# Altium footprint library SparkFun-LED.PCBLIB: 46 footprints (part 1 of 3)
Each footprint in its own frame and in the unit in brackets; x right, y up, seen from the top. Pads: shape width x height; smd on the part's side, far side on the other; paste and mask are expansions set on the pad; w line width, h text height; cw(c..) or ccw(c..) is an arc to the next point about the centre after c.
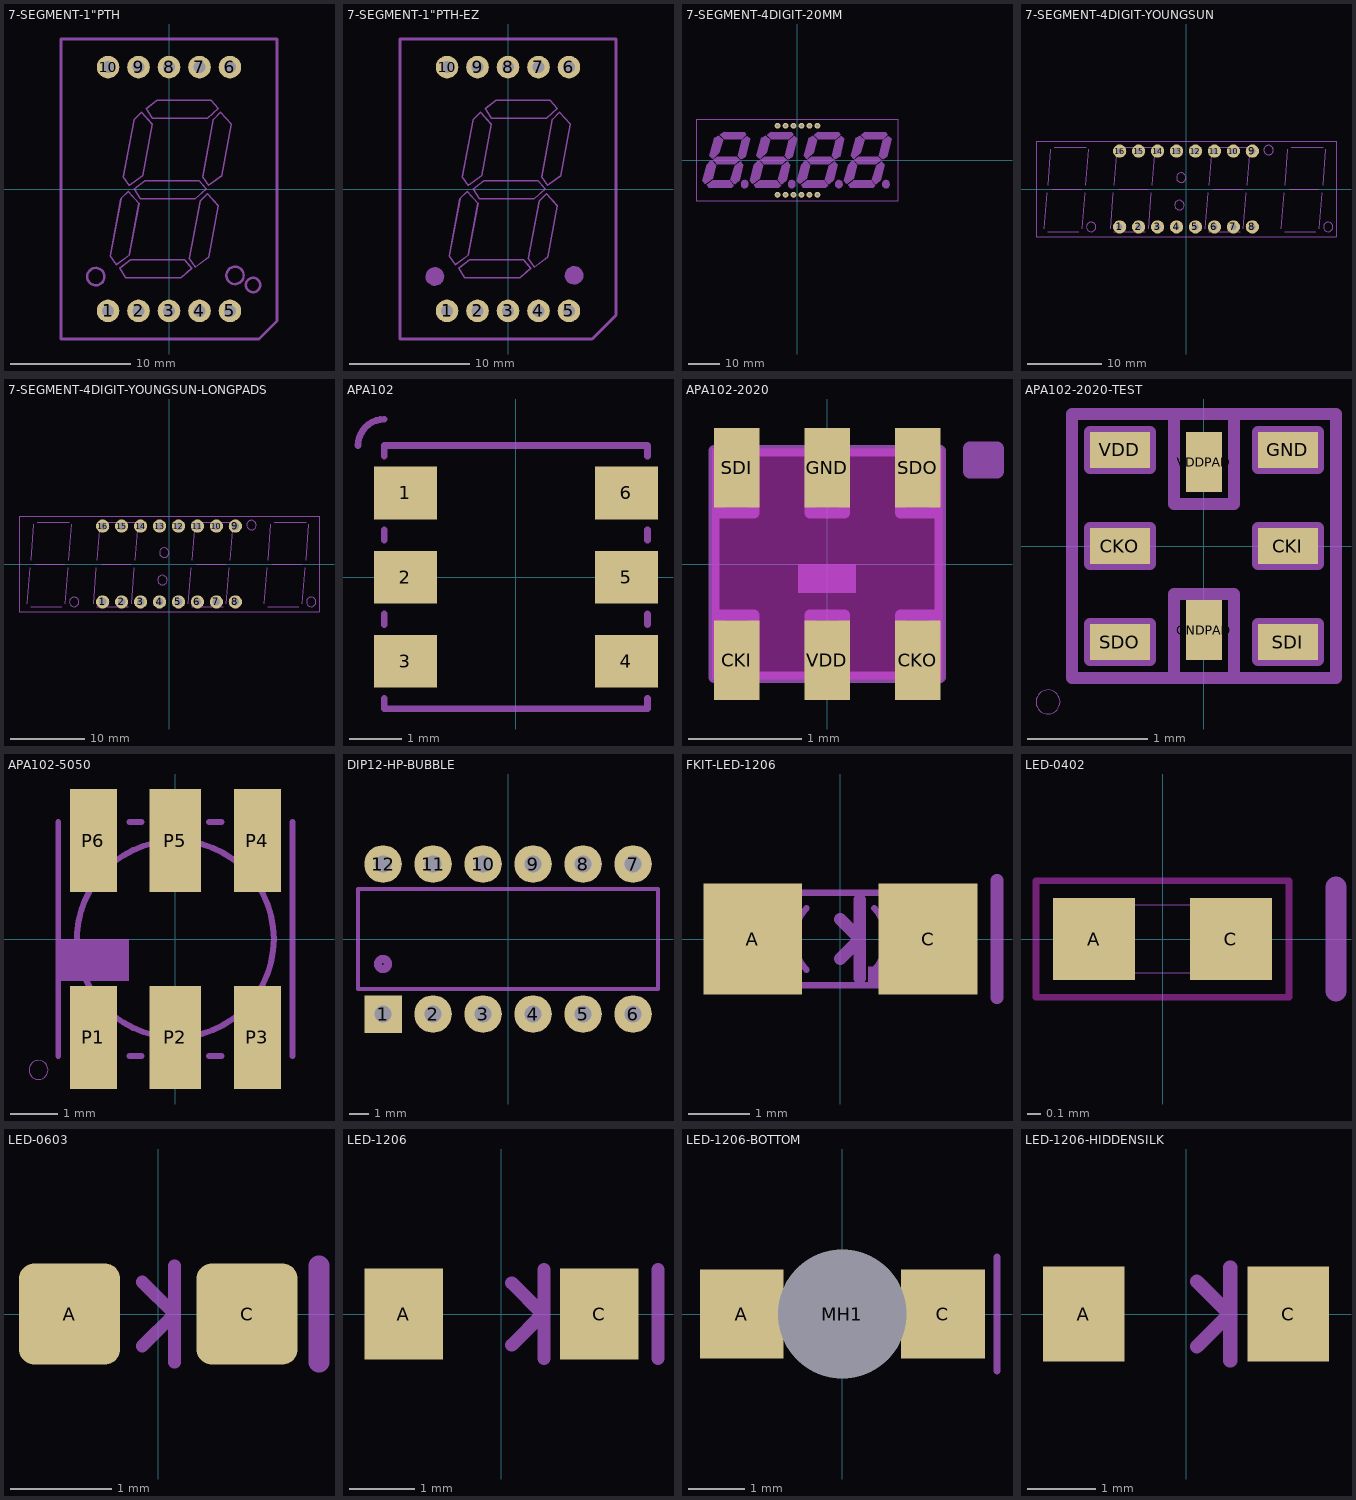
[diagram p0: the footprints below, top view; thin cyan lines are the x and y axes]

## 7-SEGMENT-1"PTH [mil]
pads (10):
  round 74 hole 39.37: 1(-200,-400) 2(-100,-400) 3(0,-400) 4(100,-400) 5(200,-400) 6(200,400) 7(100,400) 8(0,400) 9(-100,400) 10(-200,400)
tDocu:
  circle w8: c216.54,-283.46 r28.39
  circle w8: c-240.16,-287.4 r28.39
  lines w5: -192.91,-220.47 -173.23,-248.03 -129.92,-216.54 -98.43,-47.24 -133.86,-7.87 -157.48,-31.5 -192.91,-220.47 ; -161.42,-259.84 -125.98,-232.28 51.18,-232.28 74.8,-259.84 39.37,-291.34 -141.73,-291.34 -161.42,-259.84 ; -149.61,39.37 -129.92,11.81 -86.61,43.31 -55.12,212.6 -90.55,251.97 -114.17,228.35 -149.61,39.37 ; -114.17,0 -78.74,27.56 98.43,27.56 122.05,0 86.61,-31.5 -94.49,-31.5 -114.17,0 ; -74.8,263.78 -39.37,291.34 137.8,291.34 161.42,263.78 125.98,232.28 -55.12,232.28 -74.8,263.78 ; 66.93,-228.35 86.61,-255.91 129.92,-224.41 161.42,-55.12 125.98,-15.75 102.36,-39.37 66.93,-228.35 ; 110.24,39.37 129.92,11.81 173.23,43.31 204.72,212.6 169.29,251.97 145.67,228.35 110.24,39.37
tPlace:
  circle w8: c275.59,-314.96 r23.62
  lines w10: -354.33,-492.13 -354.33,492.13 354.33,492.13 354.33,-433.07 295.28,-492.13 -354.33,-492.13

## 7-SEGMENT-1"PTH-EZ [mil]
pads (10):
  round 74 hole 39.37: 1(-200,-400) 2(-100,-400) 3(0,-400) 4(100,-400) 5(200,-400) 6(200,400) 7(100,400) 8(0,400) 9(-100,400) 10(-200,400)
Top Solder:
  drawing of 10 lines, arcs and shapes, not listed
Bottom Solder:
  drawing of 10 lines, arcs and shapes, not listed
tPlace:
  region: -239,-257 -235.95,-257.2 -230.03,-258.77 -224.54,-261.48 -219.69,-265.2 -215.65,-269.79 -212.58,-275.09 -210.61,-280.88 -209.8,-286.95 -210,-290 -210.25,-292.91 -211.86,-298.51 -214.54,-303.69 -218.18,-308.25 -222.64,-312.01 -227.74,-314.83 -233.3,-316.6 -239.09,-317.25 -242,-317 -244.86,-316.9 -250.42,-315.59 -255.62,-313.23 -260.26,-309.89 -264.16,-305.71 -267.17,-300.85 -269.18,-295.5 -270.1,-289.86 -270,-287 -269.95,-284 -268.68,-278.12 -266.29,-272.61 -262.87,-267.67 -258.55,-263.49 -253.5,-260.23 -247.92,-258.03 -242,-256.95 -239,-257
  region: 218,-253 221.05,-253.2 226.97,-254.77 232.46,-257.48 237.31,-261.2 241.35,-265.79 244.42,-271.09 246.39,-276.88 247.2,-282.95 247,-286 246.75,-288.91 245.14,-294.51 242.46,-299.69 238.82,-304.25 234.36,-308.01 229.26,-310.83 223.7,-312.6 217.91,-313.25 215,-313 212.14,-312.9 206.58,-311.59 201.38,-309.23 196.74,-305.89 192.84,-301.71 189.83,-296.85 187.82,-291.5 186.9,-285.86 187,-283 187.05,-280 188.32,-274.12 190.71,-268.61 194.13,-263.67 198.45,-259.49 203.5,-256.23 209.08,-254.03 215,-252.95 218,-253
  lines w5: -192.91,-220.47 -173.23,-248.03 -129.92,-216.54 -98.43,-47.24 -133.86,-7.87 -157.48,-31.5 -192.91,-220.47 ; -161.42,-259.84 -125.98,-232.28 51.18,-232.28 74.8,-259.84 39.37,-291.34 -141.73,-291.34 -161.42,-259.84 ; -149.61,39.37 -129.92,11.81 -86.61,43.31 -55.12,212.6 -90.55,251.97 -114.17,228.35 -149.61,39.37 ; -114.17,0 -78.74,27.56 98.43,27.56 122.05,0 86.61,-31.5 -94.49,-31.5 -114.17,0 ; -74.8,263.78 -39.37,291.34 137.8,291.34 161.42,263.78 125.98,232.28 -55.12,232.28 -74.8,263.78 ; 66.93,-228.35 86.61,-255.91 129.92,-224.41 161.42,-55.12 125.98,-15.75 102.36,-39.37 66.93,-228.35 ; 110.24,39.37 129.92,11.81 173.23,43.31 204.72,212.6 169.29,251.97 145.67,228.35 110.24,39.37
  lines w10: -354.33,-492.13 -354.33,492.13 354.33,492.13 354.33,-414.07 276.28,-492.13 -354.33,-492.13

## 7-SEGMENT-4DIGIT-20MM [mil]
pads (12):
  round 74 hole 35.43: 1(-250,-433) 2(-150,-433) 3(-50,-433) 4(50,-433) 5(150,-433) 6(250,-433) 7(250,433) 8(150,433) 9(50,433) 10(-50,433) 11(-150,433) 12(-250,433)
tDocu:
  drawing of 172 lines, arcs and shapes, not listed
tPlace:
  drawing of 36 lines, arcs and shapes, not listed

## 7-SEGMENT-4DIGIT-YOUNGSUN [mil]
pads (16):
  round 70 hole 31.5: 1(-350,-200) 2(-250,-200) 3(-150,-200) 4(-50,-200) 5(50,-200) 6(150,-200) 7(250,-200) 8(350,-200) 9(350,200) 10(250,200) 11(150,200) 12(50,200) 13(-50,200) 14(-150,200) 15(-250,200) 16(-350,200)
tDocu:
  circle w5: c-500,-200 r25
  circle w5: c-150,-200 r25
  circle w5: c350,-200 r25
  circle w5: c750,-200 r25
  circle w5: c-25,60 r25
  circle w5: c-35,-85 r25
  circle w5: c435,205 r25
  lines w5: -750,-210 -735,-20 ; -730,-225 -565,-225 ; -730,20 -715,210 ; -705,0 -550,0 ; -695,220 -525,220 ; -550,-210 -535,-20 ; -530,20 -515,210 ; -400,-210 -385,-20 ; -380,-225 -215,-225 ; -380,20 -365,210 ; -355,0 -200,0 ; -345,220 -175,220 ; -200,-210 -185,-20 ; -180,20 -165,210 ; 100,-210 115,-20 ; 120,-225 285,-225 ; 120,20 135,210 ; 145,0 300,0 ; 155,220 325,220 ; 300,-210 315,-20 ; 320,20 335,210 ; 500,-210 515,-20 ; 520,-225 685,-225 ; 520,20 535,210 ; 545,0 700,0 ; 555,220 725,220 ; 700,-210 715,-20 ; 720,20 735,210 ; -790.94,-251.97 790.94,-251.97 790.94,251.97 -790.94,251.97 -790.94,-251.97
tPlace:
  circle w5: c435.63,205.32 r25
  lines w5: -790.94,-251.97 -790.94,251.97 790.94,251.97 790.94,-251.97 -790.94,-251.97

## 7-SEGMENT-4DIGIT-YOUNGSUN-LONGPADS [mil]
pads (16):
  round 70 hole 40: 1(-350,-200) 2(-250,-200) 3(-150,-200) 4(-50,-200) 5(50,-200) 6(150,-200) 7(250,-200) 8(350,-200) 9(350,200) 10(250,200) 11(150,200) 12(50,200) 13(-50,200) 14(-150,200) 15(-250,200) 16(-350,200)
tDocu:
  circle w5: c-500,-200 r25
  circle w5: c-150,-200 r25
  circle w5: c350,-200 r25
  circle w5: c750,-200 r25
  circle w5: c-25,60 r25
  circle w5: c-35,-85 r25
  circle w5: c435,205 r25
  lines w5: -750,-210 -735,-20 ; -730,-225 -565,-225 ; -730,20 -715,210 ; -705,0 -550,0 ; -695,220 -525,220 ; -550,-210 -535,-20 ; -530,20 -515,210 ; -400,-210 -385,-20 ; -380,-225 -215,-225 ; -380,20 -365,210 ; -355,0 -200,0 ; -345,220 -175,220 ; -200,-210 -185,-20 ; -180,20 -165,210 ; 100,-210 115,-20 ; 120,-225 285,-225 ; 120,20 135,210 ; 145,0 300,0 ; 155,220 325,220 ; 300,-210 315,-20 ; 320,20 335,210 ; 500,-210 515,-20 ; 520,-225 685,-225 ; 520,20 535,210 ; 545,0 700,0 ; 555,220 725,220 ; 700,-210 715,-20 ; 720,20 735,210 ; -790.94,-251.97 790.94,-251.97 790.94,251.97 -790.94,251.97 -790.94,-251.97
tPlace:
  lines w5: -790.94,-251.97 -790.94,251.97 790.94,251.97 790.94,-251.97 -790.94,-251.97

## APA102 [mm]
pads (6):
  rect 1.2x1 smd: 1(-2.1,1.6) 2(-2.1,0) 3(-2.1,-1.6) 4(2.1,-1.6) 5(2.1,0) 6(2.1,1.6)
tPlace:
  lines w0.127: -3,2.5 cw(c-2.5,2.5) -2.5,3 ; -2.5,-2.3 -2.5,-2.5 2.5,-2.5 2.5,-2.3 ; -2.5,-0.9 -2.5,-0.7 ; -2.5,0.7 -2.5,0.9 ; -2.5,2.3 -2.5,2.5 2.5,2.5 2.5,2.3 ; 2.5,-0.9 2.5,-0.7 ; 2.5,0.7 2.5,0.9

## APA102-2020 [mil]
pads (6):
  rect 15.75x27.56 smd paste+0: CKI(-31.5,-33.46) CKO(31.5,-33.46) GND(0,33.46) SDI(-31.5,33.46) SDO(31.5,33.46) VDD(0,-33.46)
Top keep-out:
  region: -40,-40 -40,40 40,40 40,-40
Top Paste:
  region: -37.4,21.65 -37.4,45.28 -25.59,45.28 -25.59,21.65
  region: -37.4,-45.28 -37.4,-21.65 -25.59,-21.65 -25.59,-45.28
  region: -5.91,-45.28 -5.91,-21.65 5.91,-21.65 5.91,-45.28
  region: 25.59,-45.28 25.59,-21.65 37.4,-21.65 37.4,-45.28
  region: 25.59,21.65 25.59,45.28 37.4,45.28 37.4,21.65
  region: -5.91,21.65 -5.91,45.28 5.91,45.28 5.91,21.65
tDocu:
  region: -10,-10 -10,0 10,0 10,-10
  lines w3.94: -39.37,-39.37 39.37,-39.37 39.37,39.37 -39.37,39.37 -39.37,-39.37 ; -37.4,-37.4 -25.59,-37.4 -25.59,-17.72 -37.4,-17.72 -37.4,-37.4 ; -37.4,17.72 -37.4,37.4 -25.59,37.4 -25.59,17.72 -37.4,17.72 ; -5.91,-37.4 5.91,-37.4 5.91,-17.72 -5.91,-17.72 -5.91,-37.4 ; -5.91,17.72 5.91,17.72 5.91,37.4 -5.91,37.4 -5.91,17.72 ; 25.59,-37.4 25.59,-17.72 37.4,-17.72 37.4,-37.4 25.59,-37.4 ; 25.59,17.72 37.4,17.72 37.4,37.4 25.59,37.4 25.59,17.72
tPlace:
  lines w5: 55.12,36.18 49.69,36.18 ; 49.69,36.18 49.69,40.12 59.06,40.12 59.06,32.24 49.69,32.24 49.69,36.18

## APA102-2020-TEST [mil]
pads (8):
  rect 19.69x11.81 smd: CKI(27.56,0) CKO(-27.56,0) GND(27.56,31.5) SDI(27.56,-31.5) SDO(-27.56,-31.5) VDD(-27.56,31.5)
  rect 11.81x19.69 smd: GNDPAD(0,-27.56) VDDPAD(0,27.56)
tDocu:
  lines w3.94: -37.4,-37.4 -37.4,-25.59 -17.72,-25.59 -17.72,-37.4 -37.4,-37.4 ; -37.4,-5.91 -37.4,5.91 -17.72,5.91 -17.72,-5.91 -37.4,-5.91 ; -37.4,25.59 -37.4,37.4 -17.72,37.4 -17.72,25.59 -37.4,25.59 ; -9.84,-43.31 -9.84,-15.75 9.84,-15.75 9.84,-43.31 -9.84,-43.31 ; -9.84,13.78 9.84,13.78 9.84,43.31 -9.84,43.31 -9.84,13.78 ; 17.72,-37.4 37.4,-37.4 37.4,-25.59 17.72,-25.59 17.72,-37.4 ; 17.72,-5.91 37.4,-5.91 37.4,5.91 17.72,5.91 17.72,-5.91 ; 17.72,25.59 37.4,25.59 37.4,37.4 17.72,37.4 17.72,25.59
tPlace:
  circle w0: c-51.18,-51.18 r3.94
  lines w3.94: -43.31,-43.31 -9.84,-43.31 9.84,-43.31 43.31,-43.31 43.31,43.31 9.84,43.31 -9.84,43.31 -43.31,43.31 -43.31,-43.31

## APA102-5050 [mm]
pads (6):
  rect 1x2.2 smd paste+0: P1(-1.75,-2.1) P3(1.75,-2.1) P4(1.75,2.1) P6(-1.75,2.1)
  rect 1.1x2.2 smd paste+0: P2(0,-2.1) P5(0,2.1)
Top Paste:
  region: -2.25,-3.2 -2.25,-1.125 -1.5,-1.125 -1.5,-3.2
  region: -0.375,-3.2 -0.375,-1.125 0.375,-1.125 0.375,-3.2
  region: 1.5,-3.2 1.5,-1.125 2.25,-1.125 2.25,-3.2
  region: 1.5,1.125 1.5,3.2 2.25,3.2 2.25,1.125
  region: -0.375,1.125 -0.375,3.2 0.375,3.2 0.375,1.125
  region: -2.25,1.125 -2.25,3.2 -1.5,3.2 -1.5,1.125
tDocu:
  circle w0.127: c0,0 r2.1
tPlace:
  circle w0: c-2.921,-2.794 r0.203
  region: -2.55,-0.89 -2.55,0 -1,0 -1,-0.89
  lines w0.127: -2.5,-2.5 -2.5,2.5 ; -0.98,-2.5 -0.72,-2.5 ; -0.98,2.5 -0.72,2.5 ; 0.72,-2.5 0.98,-2.5 ; 0.72,2.5 0.98,2.5 ; 2.5,-2.5 2.5,2.5

## DIP12-HP-BUBBLE [mil]
pads (12):
  rect 75x75 / inner round 69.29 / far side rect 75x75 hole 34: 1(-250,-150)
  round 75 hole 34: 2(-150,-150) 3(-50,-150) 4(50,-150) 5(150,-150) 6(250,-150) 7(250,150) 8(150,150) 9(50,150) 10(-50,150) 11(-150,150) 12(-250,150)
tPlace:
  circle w16: c-250,-50 r10
  lines w8: -300,-100 -300,100 300,100 300,-100 -300,-100

## FKIT-LED-1206 [mil]
pads (2):
  rect 62.99x70.98 smd: A(-55.98,0) C(55.98,0)
tDocu:
  region: 17.72,-27.56 17.72,-17.72 31.5,-17.72 31.5,-27.56
  region: 31.5,-27.56 31.5,19.69 35.43,19.69 35.43,-27.56
  region: 31.5,21.65 31.5,27.56 35.43,27.56 35.43,21.65
  region: -35.43,-27.56 -35.43,19.69 -31.5,19.69 -31.5,-27.56
  region: -35.43,21.65 -35.43,27.56 -31.5,27.56 -31.5,21.65
  lines w4: -21.65,-19.69 cw(c0.01,0) -21.65,19.69 ; 21.65,-19.69 ccw(c-0.01,0) 21.65,19.69 ; -61.02,-29.53 61.02,-29.53 61.02,29.53 -61.02,29.53 -61.02,-29.53
  lines w8: 0,-12.5 12.5,0 ; 0,12.5 12.5,0 ; 12.5,-25 12.5,0 ; 12.5,25 12.5,0
tPlace:
  lines w8: 100,-37.5 100,37.5

## LED-0402 [mil]
pads (2):
  rect 23.62x23.62 smd: A(-19.69,0) C(19.69,0)
Top keep-out:
  lines w1.97: -36.46,-16.78 -36.46,16.78 36.46,16.78 36.46,-16.78 -36.46,-16.78
tDocu:
  region: -19.69,-9.84 -19.69,9.84 -11.81,9.84 -11.81,-9.84
  region: 19.69,9.84 19.69,-9.84 11.81,-9.84 11.81,9.84
  lines w0.1: -19.69,-9.84 -19.69,9.84 19.69,9.84 19.69,-9.84 -19.69,-9.84
tPlace:
  lines w6: 50,-15 50,15

## LED-0603 [mm]
pads (2):
  rrect30% 1x1 smd: A(-0.877,0) C(0.877,0)
tDocu:
  lines w0.127: -0.159,-0.318 0.159,0 ; -0.159,0.318 0.159,0 ; 0.159,-0.476 0.159,0 ; 0.159,0.476 0.159,0
tPlace:
  lines w0.203: 1.587,-0.476 1.587,0.476

## LED-1206 [mil]
pads (2):
  rect 47.24x55.12 smd: A(-59.06,0) C(59.06,0)
tDocu:
  lines w8: 6.25,-18.75 25,0 6.25,18.75 ; 25.74,-26.87 25.74,26.87
tPlace:
  lines w8: 94.49,-26.87 94.49,26.87

## LED-1206-BOTTOM [mil]
pads (3):
  rect 59.06x62.99 smd: A(-70.87,0) C(70.87,0)
  round 90.55 hole 90.55 unplated: MH1(0,0)
tDocu:
  region: -29.53,-29.53 -29.53,29.53 29.53,29.53 29.53,-29.53
  region: 43.31,-19.69 43.31,19.69 62.99,19.69 62.99,9.84 61.45,9.69 58.62,8.51 56.45,6.34 55.27,3.51 55.12,1.97 55.12,-1.97 55.27,-3.51 56.45,-6.34 58.62,-8.51 61.45,-9.69 62.99,-9.84 62.99,-19.69
  region: -43.31,19.69 -43.31,-19.69 -62.99,-19.69 -62.99,-9.84 -61.45,-9.69 -58.62,-8.51 -56.45,-6.34 -55.27,-3.51 -55.12,-1.97 -55.12,1.97 -55.27,3.51 -56.45,6.34 -58.62,8.51 -61.45,9.69 -62.99,9.84 -62.99,19.69
tPlace:
  lines w5: 109,-40 109,40
Reference:
  lines w5: -94.49,0 -62.99,0 ; -78.74,-15.75 -78.74,15.75 ; -50,0 -15,0 ; 10,-25 10,0 ; 10,25 10,0 ; 50,0 10,0 ; 62.99,0 94.49,0 ; -15,0 -15,25 10,0 ; -15,0 -15,-25 10,0

## LED-1206-HIDDENSILK [mil]
pads (2):
  rect 47.24x55.12 smd: A(-59.06,0) C(59.06,0)
tDocu:
  lines w8: 6.25,-18.75 25,0 6.25,18.75 ; 25.74,-26.87 25.74,26.87
tPlace:
  lines w8: 25.49,-26.87 25.49,26.87